# Altium footprint library 7segment.PcbLib: 1 footprints
Each footprint in its own frame and in the unit in brackets; x right, y up, seen from the top. Pads: shape width x height; smd on the part's side, far side on the other; paste and mask are expansions set on the pad; w line width, h text height; cw(c..) or ccw(c..) is an arc to the next point about the centre after c.
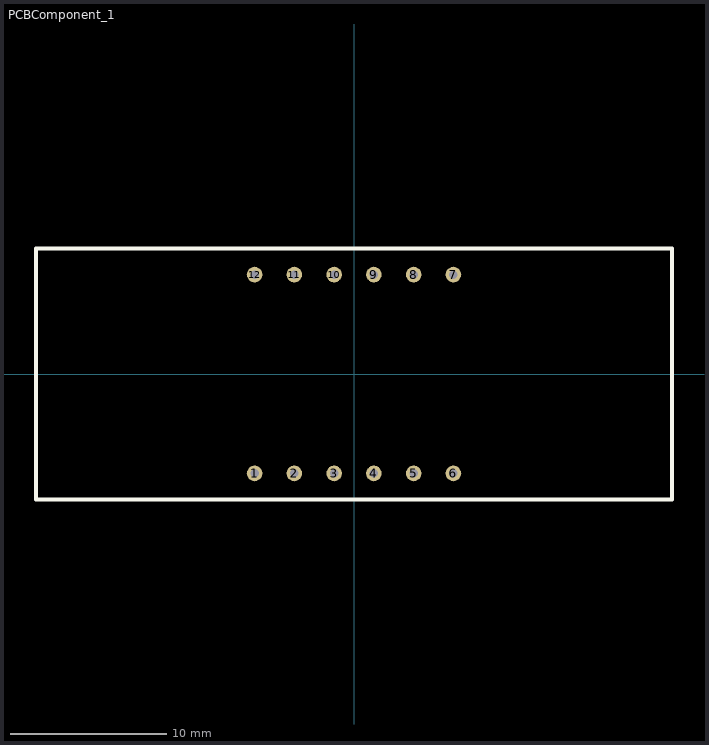
[diagram p0: the footprint, top view; thin cyan lines are the x and y axes]

## PCBComponent_1 [mm]
pads (12):
  round 1 hole 0.55: 1(-6.35,-6.35) 2(-3.81,-6.35) 3(-1.27,-6.35) 4(1.27,-6.35) 5(3.81,-6.35) 6(6.35,-6.35) 7(6.35,6.35) 8(3.81,6.35) 9(1.27,6.35) 10(-1.27,6.35) 11(-3.81,6.35) 12(-6.35,6.35)
Top Overlay:
  lines w0.254: -20.32,-8.001 -20.32,8.001 20.32,8.001 20.32,-8.001 -20.32,-8.001
3D body "User Library-7 segment 4 digit 40_5X15_8 mm-1.sldprt": height 8, standoff 0, extent -20.25,-7.9 20.25,7.9